# EAGLE library part ADL5530ACPZ-R7 (library Analog Devices)
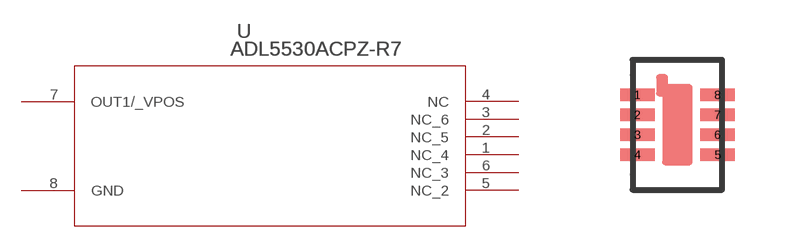
[diagram p1: symbol with the pads of CP_8_1; footprint CP_8_1]

Designator prefix U

## ADL5530ACPZ-R7  [CP_8_1]
1  NC_4  pas
2  NC_5  pas
3  NC_6  pas
4  NC  pas
5  NC_2  pas
6  NC_3  pas
7  OUT1/_VPOS  pas
8  GND  pas

## Footprint CP_8_1 (pad centres in mm)
smd 0.864 x 0.305: 1 -1.003,0.75; 2 -1.003,0.25; 3 -1.003,-0.25; 4 -1.003,-0.75; 5 1.003,-0.75; 6 1.003,-0.25; 7 1.003,0.25; 8 1.003,0.75